# Altium schematic symbol library Switches.SchLib: 7 symbols
Pins are listed as number, name and electrical type; pins without a type are passive.

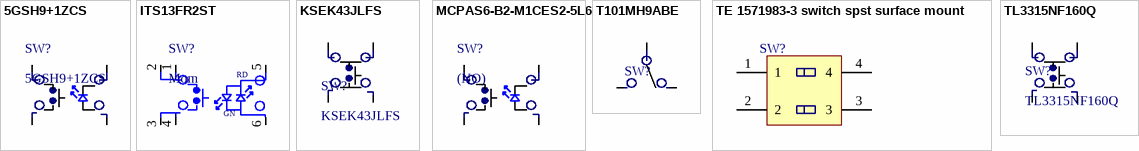
[diagram p0: symbols 5GSH9+1ZCS to TL3315NF160Q]

## 5GSH9+1ZCS
designator SW?
LED switch; Supplier 1: Mouser; Supplier 2: Farnell; Supplier 3: RSComponents; Supplier 4: Mouser; Supplier Part Number 1: 642-5GSH93561; Supplier Part Number 2: 2280477; Supplier Part Number 3: 765-1554; Supplier Part Number 4: 642-1ZCS16LM123
footprint 5GSH9+1ZCS (LED Switch)
pins: 1, 2, 3, 4

## ITS13FR2ST
designator SW?, comment Mom
illuminated tactile push button right angle; Supplier 1: Digi-Key; Supplier 2: Mouser; Supplier 3: Arrow; Supplier Part Number 1: CKN10441-ND; Supplier Part Number 2: 611-ITS13FR2ST; Supplier Part Number 3: ITS13FR2ST
footprint ITS13FR2ST (Switch-Tactile-90 deg-momentory-illuminated)
pins: 1, 2, 3, 4, 5, 6
text: RD; GN

## KSEK43JLFS
designator SW?
SPST, push to make, SMD; Supplier 1: Farnell; Supplier Part Number 1: 2435309
footprint KSEK43J (SPST, push to make)
pins: 1, 2, 3, 4

## MCPAS6-B2-M1CES2-5L6
designator SW?, comment (NO)
push button  (no) 50v 125ma; Supplier 1: Farnell; Supplier 2: Newark; Supplier 3: Element14; Supplier Part Number 1: 2146911; Supplier Part Number 2: 28W1907; Supplier Part Number 3: 2146911
footprint MCPA switch (push button non latching single pole illuminated 50V 125ma)
pins: 1, 2, 3 +, 4 -

## T101MH9ABE
designator SW?  (value not drawn)
SPDT, 3A, On-On; Supplier 1: Farnell; Supplier Part Number 1: 9575685
footprint T101MH9ABE (Through hole, SPDT, 3A)
pins: 1, 2, 3

## TE 1571983-3 switch spst surface mount
designator SW?, comment 2 Pole slide switch  (value not drawn)
Supplier 1: Farnell; Supplier Part Number 1: 2060777
footprint smt dil 2 pole SOIC127P600-8N (2 pole surface mount switch)
pins: 1, 2, 3, 4

## TL3315NF160Q
designator SW?
SPST, low profile, SMD; Supplier 1: Farnell; Supplier Part Number 1: 2103642
footprint TL3315NF160Q (SMD, Low Profile, Tactile Switch)
pins: 1, 2, 3, 4